# Altium schematic symbol library Components - 09.05.22 - 09.57.SchLib: 1 symbol
Pins are listed as number, name and electrical type; pins without a type are passive.

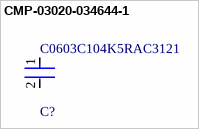
[diagram p0: symbol CMP-03020-034644-1]

## CMP-03020-034644-1
designator C?, comment C0603C104K5RAC3121
CAP CER 0.1UF 50V X7R 0603; Case/Package: 0603; RoHS Compliant: Yes
footprint FP-C0603C104K5RAC3121-IPC_A
footprint FP-C0603C104K5RAC3121-IPC_C
footprint FP-C0603C104K5RAC3121-IPC_B
footprint FP-C0603C104K5RAC3121-MFG
pins: 1, 2